# Altium footprint library resistor0805.PcbLib: 1 footprints
Each footprint in its own frame and in the unit in brackets; x right, y up, seen from the top. Pads: shape width x height; smd on the part's side, far side on the other; paste and mask are expansions set on the pad; w line width, h text height; cw(c..) or ccw(c..) is an arc to the next point about the centre after c.
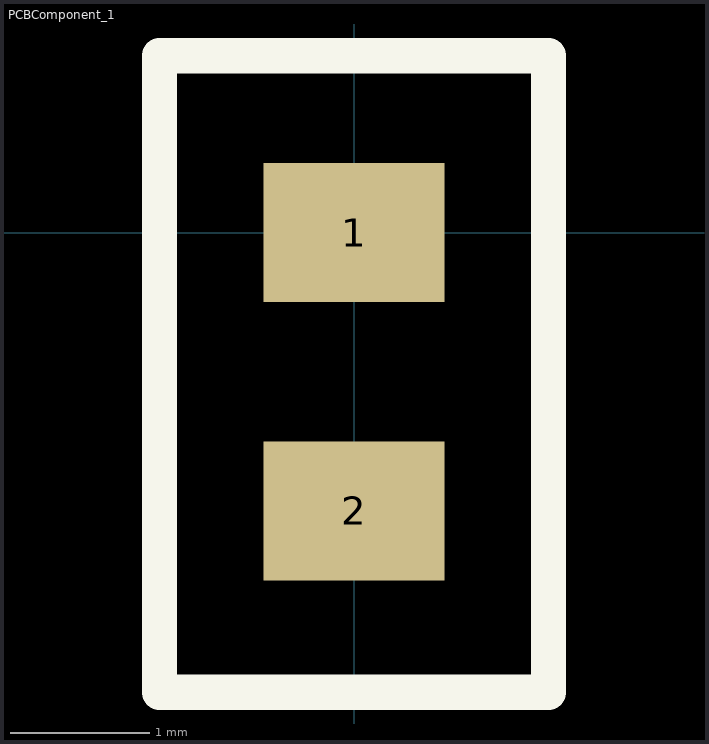
[diagram p0: the footprint, top view; thin cyan lines are the x and y axes]

## PCBComponent_1 [mm]
pads (2):
  rect 1.3x1 smd: 1(0,0) 2(0,-2)
Top Overlay:
  lines w0.254: -1.397,-3.302 1.397,-3.302 1.397,1.27 -1.397,1.27 -1.397,-3.302
3D body "resistor0805.stp": height 0.8, standoff 0, extent -0.498,-2.016 0.752,-0.016